# Altium footprint library PCB Diode.PcbLib: 14 footprints
Each footprint in its own frame and in the unit in brackets; x right, y up, seen from the top. Pads: shape width x height; smd on the part's side, far side on the other; paste and mask are expansions set on the pad; w line width, h text height; cw(c..) or ccw(c..) is an arc to the next point about the centre after c.
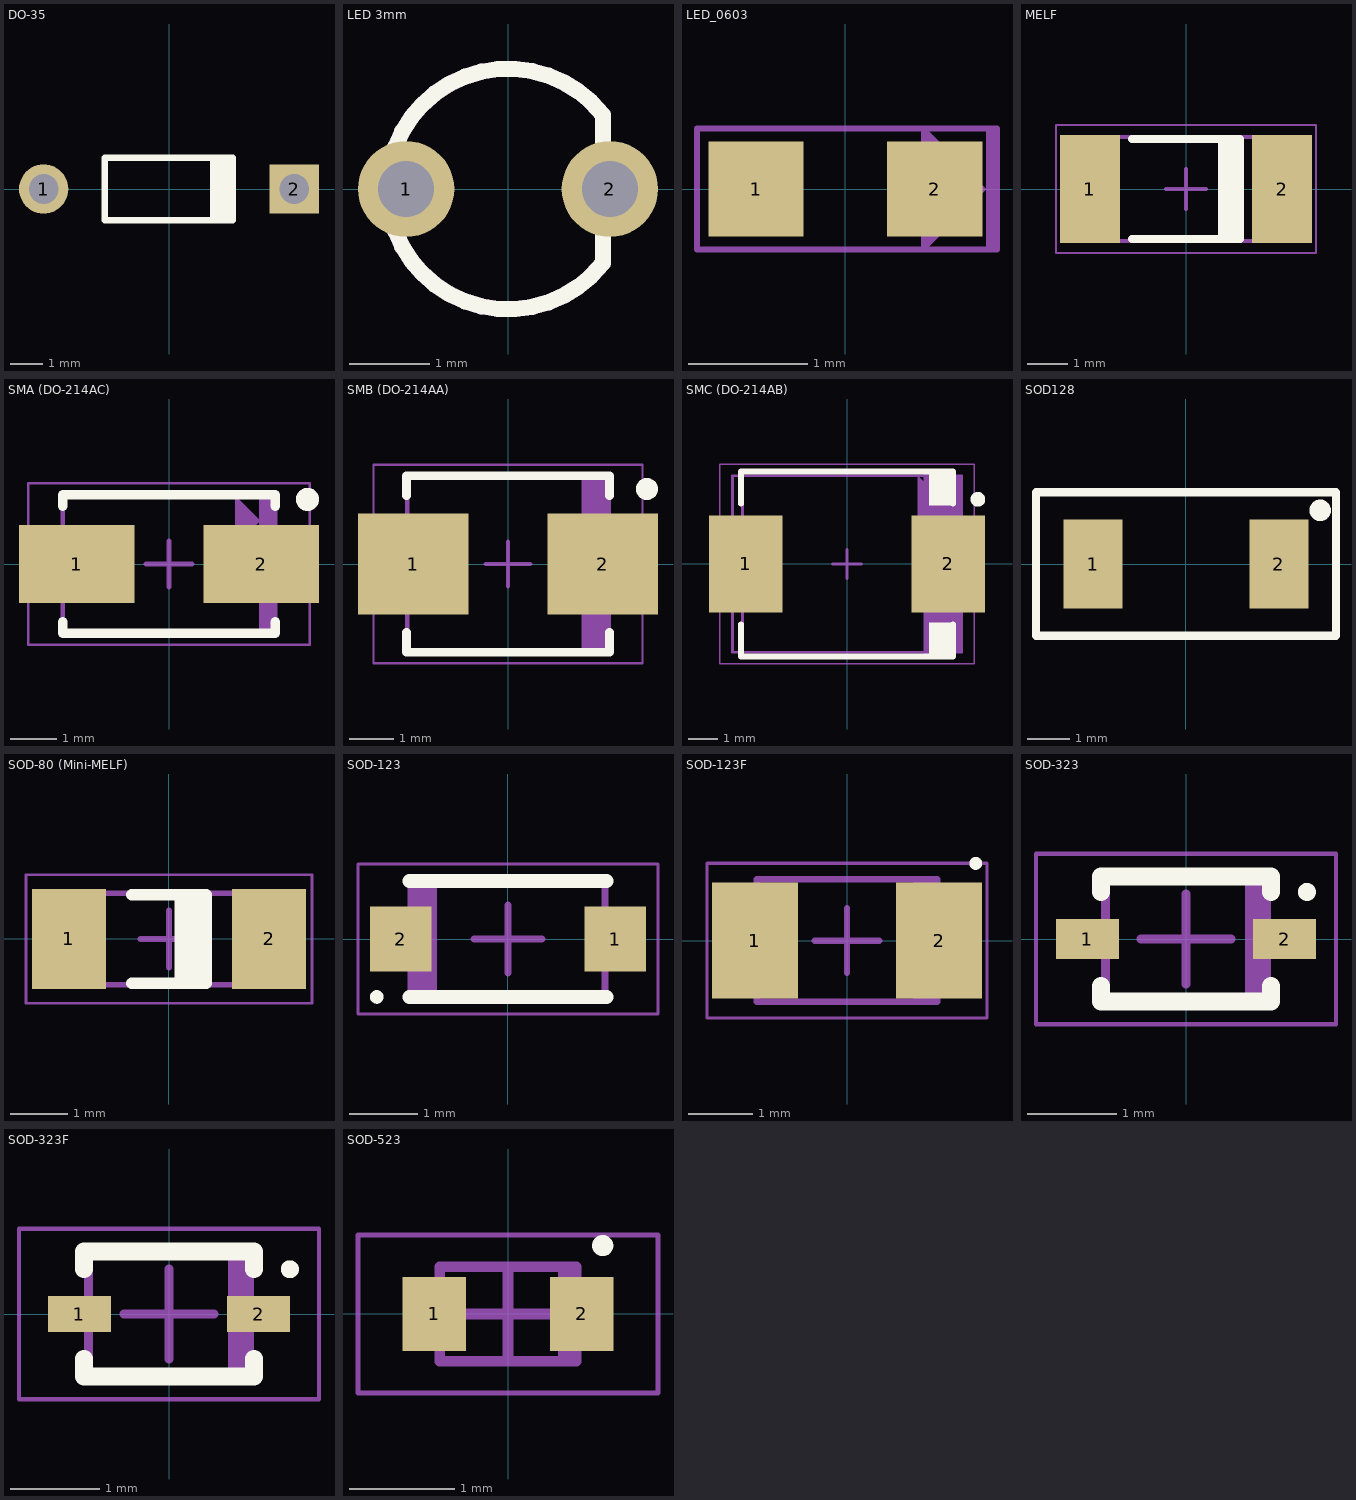
[diagram p0: the footprints below, top view; thin cyan lines are the x and y axes]

## DO-35 [mm]
pads (2):
  round 1.5 hole 0.9: 1(-3.81,0)
  rect 1.5x1.5 hole 0.9: 2(3.81,0)
Top Overlay:
  rectangle: 1.244,-0.95 2.044,0.95
  lines w0.2: 1.944,-0.95 -1.956,-0.95 -1.956,0.95 1.944,0.95
3D body "DO-204AH-RED.stp": height 2.1, standoff -2.5, extent -4.084,-1.016 4.084,0.976

## LED 3mm [mm] "THT LED 3mm, 2.54 pitch"
height 5
pads (2):
  round 1.2 hole 0.7: 1(-1.27,0) 2(1.27,0)
Top Overlay:
  lines w0.2: 1.184,-0.921 cw(c0,0) 1.184,0.921 1.184,-0.921
Mechanical 13:
  lines w0.2: 1.184,-0.921 cw(c0,0) 1.184,0.921 1.184,-0.921

## LED_0603 [mm]
pads (2):
  rect 0.8x0.8 smd: 1(-0.75,0) 2(0.75,0)
TopAsm:
  region: 1.27,0.508 1.27,-0.508 1.182,-0.508 1.182,0.508
  region: 1.182,0 0.674,0.508 0.635,0.508 0.635,-0.508 0.674,-0.508
  lines w0.051: -1.245,-0.508 -1.245,0.508 1.27,0.508 1.27,-0.508 -1.245,-0.508
  text ".Designator" at -1.067,-0.203 h0.51
3D body "User Library-LED SMD0603.step": height 0.68, standoff 0, extent -0.8,-0.375 0.85,0.35

## MELF [mm] "MELF Diode, 2-Leads, Body 5,00x2,50mm"
height 2.6
pads (2):
  rect 1.5x2.7 smd: 1(-2.4,0) 2(2.4,0)
Top Overlay:
  rectangle: 0.8,-1.25 1.35,1.25
  lines w0.2: -1.35,-1.25 1.35,-1.25 1.35,1.25 -1.35,1.25
Mechanical 13:
  lines w0.1: -2.6,-1.3 2.6,-1.3 2.6,1.3 -2.6,1.3 -2.6,-1.3
Mechanical 15:
  lines w0.05: -3.25,-1.6 3.25,-1.6 3.25,1.6 -3.25,1.6 -3.25,-1.6
  lines w0.1: -0.5,0 0.5,0 ; 0,-0.5 0,0.5
3D body: height 2.59, standoff 0, extent 2.05,-1.3 2.6,1.295
3D body: height 2.57, standoff 0.05, extent -2.05,-1.27 2.05,1.265
3D body: height 2.58, standoff 0.04, extent 0.85,-1.271 1.45,1.266
3D body: height 2.59, standoff 0, extent -2.6,-1.3 -2.05,1.295

## SMA (DO-214AC) [mm] "Molded Diode, 2-Leads, Body 4,30x2,60mm"
height 2.3
pads (2):
  rect 2.5x1.7 smd: 1(-2,0) 2(2,0)
Top Overlay:
  circle w0.25: c3,1.4 r0.125
  lines w0.2: -2.3,-1.25 -2.3,-1.5 2.3,-1.5 2.3,-1.25 ; -2.3,1.25 -2.3,1.5 2.3,1.5 2.3,1.25
Mechanical 15:
  lines w0.05: -3.05,-1.75 -3.05,1.75 3.05,1.75 3.05,-1.75 -3.05,-1.75
  lines w0.1: -0.5,0 0.5,0 ; 0,-0.5 0,0.5
TopAsm:
  region: 1.981,0.94 1.473,1.448 1.434,1.448 1.434,0.432 1.473,0.432
  region: 2.3,1.46 2.3,-1.46 1.958,-1.46 1.958,1.46
  lines w0.1: -2.3,-1.46 2.3,-1.46 2.3,1.46 -2.3,1.46 -2.3,-1.46
  text ".Designator" at -1.905,-0.787 h0.8
3D body "User Library-DO-214AC_SMA.step": height 2.15, standoff -0.05, extent -2.5,-1.35 2.5,1.35
3D body: height 0.79, standoff -0.33, extent 0.1,-3.3 0.1,-3.3

## SMB (DO-214AA) [mm] "Molded Diode, 2-Leads, Body 4,31x3,62mm"
height 2.5
pads (2):
  rect 2.5x2.3 smd: 1(-2.15,0) 2(2.15,0)
Top Overlay:
  circle w0.25: c3.15,1.7 r0.125
  lines w0.2: -2.3,-1.55 -2.3,-2 2.3,-2 2.3,-1.55 ; -2.3,1.55 -2.3,2 2.3,2 2.3,1.55
Mechanical 13:
  rectangle: 1.67,-1.97 2.285,1.97
  lines w0.1: -2.285,-1.97 2.285,-1.97 2.285,1.97 -2.285,1.97 -2.285,-1.97
Mechanical 15:
  lines w0.05: -3.05,-2.25 3.05,-2.25 3.05,2.25 -3.05,2.25 -3.05,-2.25
  lines w0.1: -0.5,0 0.5,0 ; 0,-0.5 0,0.5
3D body: height 2.5, standoff 0, extent -2.285,-1.97 2.285,1.97

## SMC (DO-214AB) [mm] "Molded Diode, 2-Leads, Body 6,85x5,90mm"
height 2.5
pads (2):
  rect 2.5x3.3 smd: 1(-3.45,0) 2(3.45,0)
Top Overlay:
  circle w0.25: c4.45,2.2 r0.125
  region: 3.6,2 2.8,2 2.8,3.15 3.6,3.15
  region: 3.6,-2 2.8,-2 2.8,-3.15 3.6,-3.15
  lines w0.2: -3.6,-2.05 -3.6,-3.15 3.6,-3.15 3.6,-2.05 ; -3.6,2.05 -3.6,3.15 3.6,3.15 3.6,2.05
Mechanical 13:
  rectangle: 2.599,-3.11 3.555,3.11
  lines w0.1: -3.555,-3.11 3.555,-3.11 3.555,3.11 -3.555,3.11 -3.555,-3.11
Mechanical 15:
  lines w0.05: -4.325,-3.4 4.325,-3.4 4.325,3.4 -4.325,3.4 -4.325,-3.4
  lines w0.1: -0.5,0 0.5,0 ; 0,-0.5 0,0.5
TopAsm:
  region: 3.9,3 3.9,-3 3.3,-3 3.3,3
  region: 3.308,2.1 2.4,3.008 2.4,1.192
  lines w0.1: -3.9,-3 -3.9,3 3.9,3 3.9,-3 -3.9,-3
  text ".Designator" at -3,-0.2 h1.2
3D body "User Library-DO-214AB-SMC.step": height 2.4, standoff -0.05, extent -3.9,-2.95 3.9,2.95

## SOD128 [mm]
pads (2):
  rect 1.4x2.1 smd: 1(-2.2,0) 2(2.2,0)
Top Overlay:
  circle w0.254: c3.175,1.27 r0.127
  lines w0.2: -3.55,-1.7 -3.55,0 -3.55,1.7 3.55,1.7 3.55,-1.7 -3.55,-1.7

## SOD-80 (Mini-MELF) [mm] "MELF Diode, 2-Leads, Body 3,50x1,45mm"
height 1.6
pads (2):
  rect 1.3x1.75 smd: 1(-1.75,0) 2(1.75,0)
Top Overlay:
  rectangle: 0.1,-0.775 0.65,0.775
  lines w0.2: -0.65,-0.775 0.65,-0.775 0.65,0.775 -0.65,0.775
Mechanical 13:
  lines w0.1: -1.85,-0.8 1.85,-0.8 1.85,0.8 -1.85,0.8 -1.85,-0.8
Mechanical 15:
  lines w0.05: -2.5,-1.125 2.5,-1.125 2.5,1.125 -2.5,1.125 -2.5,-1.125
  lines w0.1: -0.5,0 0.5,0 ; 0,-0.5 0,0.5
3D body: height 1.59, standoff 0, extent 1.35,-0.8 1.85,0.797
3D body: height 1.58, standoff 0.04, extent -1.35,-0.77 1.35,0.767
3D body: height 1.58, standoff 0.04, extent 0.15,-0.771 0.75,0.768
3D body: height 1.59, standoff 0, extent -1.85,-0.8 -1.35,0.797

## SOD-123 [mm] "Molded Diode, 2-Leads, Body 2,70x1,55mm"
height 1.35
pads (2):
  rect 0.9x0.95 smd: 1(1.575,0) 2(-1.575,0)
Top Overlay:
  circle w0.1: c-1.925,-0.85 r0.05
  lines w0.2: -1.45,-0.85 1.45,-0.85 ; -1.45,0.85 1.45,0.85
Mechanical 13:
  region: -1.042,0.85 -1.425,0.85 -1.425,-0.85 -1.042,-0.85
  lines w0.1: -1.425,-0.85 -1.425,0.85 1.425,0.85 1.425,-0.85 -1.425,-0.85
Mechanical 15:
  lines w0.05: -2.2,-1.1 -2.2,1.1 2.2,1.1 2.2,-1.1 -2.2,-1.1
  lines w0.1: -0.5,0 0.5,0 ; 0,-0.5 0,0.5
TopAsm:
  region: -1.042,0.85 -1.425,0.85 -1.425,-0.85 -1.042,-0.85
  lines w0.1: -1.425,-0.85 1.425,-0.85 1.425,0.85 -1.425,0.85 -1.425,-0.85
3D body "SOD-123.step": height 1.42, standoff -0.03, extent -1.925,-0.85 1.925,0.85

## SOD-123F [mm] "Molded Diode, 2-Leads, Body 2,70x1,80mm"
height 1.15
pads (2):
  rect 1.34x1.8 smd: 1(-1.43,0) 2(1.43,0)
Top Overlay:
  circle w0.1: c2,1.2 r0.05
Mechanical 13:
  rectangle: 1.023,-0.95 1.4,0.95
  lines w0.1: -1.4,-0.95 -1.4,0.95 1.4,0.95 1.4,-0.95 -1.4,-0.95
Mechanical 15:
  lines w0.05: -2.175,-1.2 -2.175,1.2 2.175,1.2 2.175,-1.2 -2.175,-1.2
  lines w0.1: -0.5,0 0.5,0 ; 0,-0.5 0,0.5
3D body: height 1.15, standoff 0, extent -1.4,-0.95 1.4,0.95

## SOD-323 [mm] "Molded Diode, 2-Leads, Body 1,70x1,30mm"
height 1.1
pads (2):
  rect 0.7x0.45 smd: 1(-1.1,0) 2(1.1,0)
Top Overlay:
  circle w0.1: c1.35,0.525 r0.05
  lines w0.2: -0.95,-0.525 -0.95,-0.7 0.95,-0.7 0.95,-0.525 ; -0.95,0.525 -0.95,0.7 0.95,0.7 0.95,0.525
Mechanical 13:
  rectangle: 0.658,-0.7 0.9,0.7
  lines w0.1: -0.9,-0.7 -0.9,0.7 0.9,0.7 0.9,-0.7 -0.9,-0.7
Mechanical 15:
  lines w0.05: -1.675,-0.95 -1.675,0.95 1.675,0.95 1.675,-0.95 -1.675,-0.95
  lines w0.1: -0.5,0 0.5,0 ; 0,-0.5 0,0.5
3D body "User Library-SOD-323.step": height 1.1, standoff 0, extent -1.3,-0.675 1.3,0.675

## SOD-323F [mm] "Molded Diode, 2-Leads, Body 1,70x1,25mm"
height 0.75
pads (2):
  rect 0.7x0.4 smd: 1(-1,0) 2(1,0)
Top Overlay:
  circle w0.1: c1.35,0.5 r0.05
  lines w0.2: -0.95,-0.5 -0.95,-0.7 0.95,-0.7 0.95,-0.5 ; -0.95,0.5 -0.95,0.7 0.95,0.7 0.95,0.5
Mechanical 13:
  rectangle: 0.658,-0.675 0.9,0.675
  lines w0.1: -0.9,-0.675 -0.9,0.675 0.9,0.675 0.9,-0.675 -0.9,-0.675
Mechanical 15:
  lines w0.05: -1.675,-0.95 -1.675,0.95 1.675,0.95 1.675,-0.95 -1.675,-0.95
  lines w0.1: -0.5,0 0.5,0 ; 0,-0.5 0,0.5
3D body: height 0.75, standoff 0, extent -0.9,-0.675 0.9,0.675

## SOD-523 [mm] "Molded Diode, 2-Leads, Body 1,20x0,80mm"
height 0.65
pads (2):
  rect 0.6x0.7 smd: 1(-0.7,0) 2(0.7,0)
Top Overlay:
  circle w0.1: c0.9,0.65 r0.05
Mechanical 13:
  rectangle: 0.475,-0.45 0.65,0.45
  lines w0.1: -0.65,-0.45 0.65,-0.45 0.65,0.45 -0.65,0.45 -0.65,-0.45
Mechanical 15:
  lines w0.05: -1.425,-0.75 1.425,-0.75 1.425,0.75 -1.425,0.75 -1.425,-0.75
  lines w0.1: -0.45,0 0.45,0 ; 0,-0.45 0,0.45
3D body: height 0.65, standoff 0, extent -0.65,-0.45 0.65,0.45